# Altium schematic symbol library Resistor_2817.SchLib: 1 symbol
Pins are listed as number, name and electrical type; pins without a type are passive.

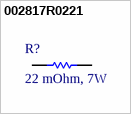
[diagram p0: symbol 002817R0221]

## 002817R0221
designator R?, comment 22 mOhm, 7W
RES, size 2817, 22 mOhm, 7W; Manufacturer: Isabellenhuette; Manufacturer Part Number: SMT-R022-1.0; Tolerance: +/-1%; Value: 22 mOhm; Packaging: Tape and Reel; Supplier 1: Mouser; Supplier 1 Part Number: N/A; Supplier 1 URL: N/A; Supplier 2: Digi-Key; Supplier 2 Part Number: 4423-SMT-R022-1.0TR-ND; Supplier 2 URL: https://www.digikey.com/en/products/detail/isabellenhuette-usa/SMT-R022-1-0/16836778; Supplier 3: thegioiic; Supplier 3 Part Number: N/A; Supplier 3 URL: N/A; ComponentLink1Description: Datasheet; ComponentLink1URL: https://www.lcsc.com/datasheet/C2688865.pdf?spm=wm.sxq.inf.ggs___wm.fly.bg.0.xh&lcsc_vid=FQMKBABWTgUIBQJQFFEMBgBUFFIPVlNeFQReAQVWFFgxVlNeQlBfX11WRFZeUTsOAxUeFF5JWBYZEEoKFBINSQcJGk4NBhADEA4cHktXR1BYSQwSGg0%3D; Mount: SMD/SMT; Operating Temperature Max: + 85 C; Operating Temperature Min: - 40 C; Package / Case: 2817; LCSC Part #: C2688865; Rated Power: 7W
footprint RES_2817 (Chip Resistor, 2-Leads, Body 7.10x4.20mm, IPC Medium Density)
simulation model R_Resistor_Default (Model Description)
signal-integrity model Resistor Model
pins: 1, 2